# EAGLE library part STM32F429V (library ELL-i-DigitalIC)
STM32F427 / 429 in LQFP100 package. STM32F4-series Cortex-M4 microcontroller in a 100 lead package. Datasheet (DM00071990.pdf) <http://www.st.com/web/en/resource/technical/document/datasheet/DM00071990.pdf> .
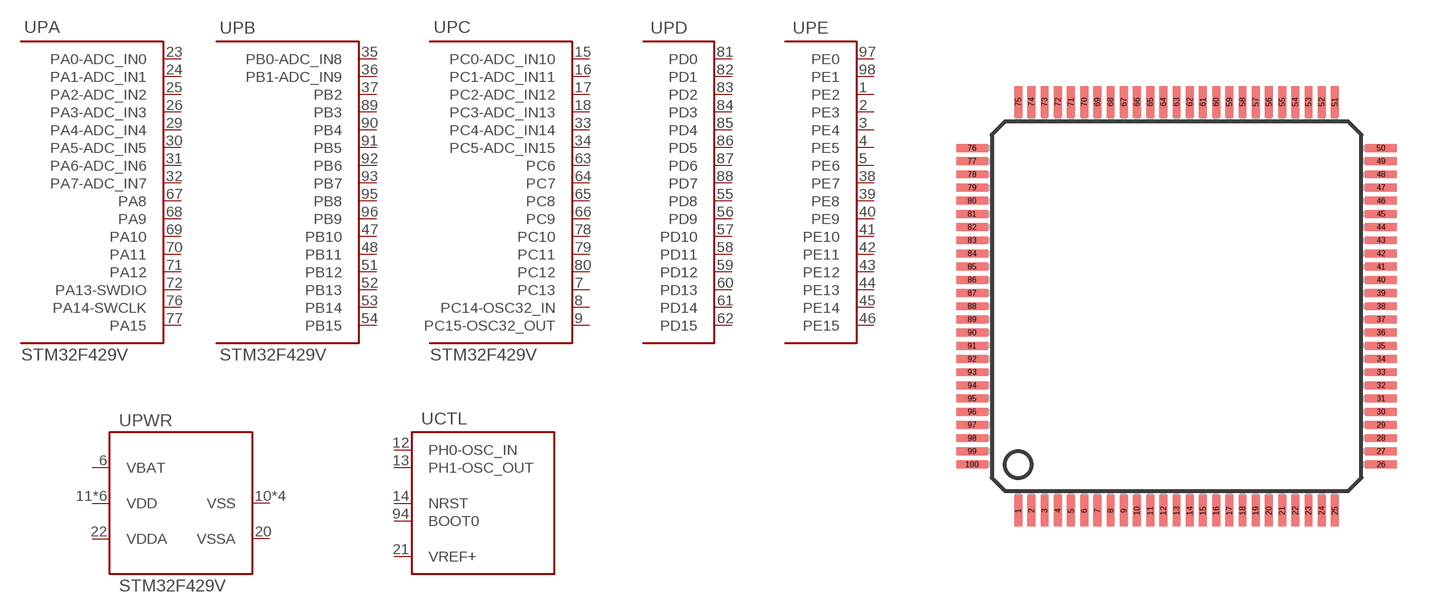
[diagram p2: symbol with the pads of LQFP100; footprint LQFP100]

Designator prefix U; gates PA=STM32-PA PB=STM32-PB PC=STM32-PC PD=STM32-PD PE=STM32-PE PWR=STM32FXXX-PWR CTL=STM32F4XX-CTL

## STM32F429VGT (FLASH: 1024K), STM32F429VIT (FLASH: 2048K)  [LQFP100]
1  PE:PE2
2  PE:PE3
3  PE:PE4
4  PE:PE5
5  PE:PE6
6  PWR:VBAT  pwr
7  PC:PC13
8  PC:PC14-OSC32_IN
9  PC:PC15-OSC32_OUT
10  PWR:VSS  pwr
11  PWR:VDD  pwr
12  CTL:PH0-OSC_IN
13  CTL:PH1-OSC_OUT
14  CTL:NRST
15  PC:PC0-ADC_IN10
16  PC:PC1-ADC_IN11
17  PC:PC2-ADC_IN12
18  PC:PC3-ADC_IN13
19  PWR:VDD  pwr
20  PWR:VSSA  pwr
21  CTL:VREF+
22  PWR:VDDA  pwr
23  PA:PA0-ADC_IN0
24  PA:PA1-ADC_IN1
25  PA:PA2-ADC_IN2
26  PA:PA3-ADC_IN3
27  PWR:VSS  pwr
28  PWR:VDD  pwr
29  PA:PA4-ADC_IN4
30  PA:PA5-ADC_IN5
31  PA:PA6-ADC_IN6
32  PA:PA7-ADC_IN7
33  PC:PC4-ADC_IN14
34  PC:PC5-ADC_IN15
35  PB:PB0-ADC_IN8
36  PB:PB1-ADC_IN9
37  PB:PB2
38  PE:PE7
39  PE:PE8
40  PE:PE9
41  PE:PE10
42  PE:PE11
43  PE:PE12
44  PE:PE13
45  PE:PE14
46  PE:PE15
47  PB:PB10
48  PB:PB11
50  PWR:VDD  pwr
51  PB:PB12
52  PB:PB13
53  PB:PB14
54  PB:PB15
55  PD:PD8
56  PD:PD9
57  PD:PD10
58  PD:PD11
59  PD:PD12
60  PD:PD13
61  PD:PD14
62  PD:PD15
63  PC:PC6
64  PC:PC7
65  PC:PC8
66  PC:PC9
67  PA:PA8
68  PA:PA9
69  PA:PA10
70  PA:PA11
71  PA:PA12
72  PA:PA13-SWDIO
74  PWR:VSS  pwr
75  PWR:VDD  pwr
76  PA:PA14-SWCLK
77  PA:PA15
78  PC:PC10
79  PC:PC11
80  PC:PC12
81  PD:PD0
82  PD:PD1
83  PD:PD2
84  PD:PD3
85  PD:PD4
86  PD:PD5
87  PD:PD6
88  PD:PD7
89  PB:PB3
90  PB:PB4
91  PB:PB5
92  PB:PB6
93  PB:PB7
94  CTL:BOOT0
95  PB:PB8
96  PB:PB9
97  PE:PE0
98  PE:PE1
99  PWR:VSS  pwr
100  PWR:VDD  pwr

## Footprint LQFP100 (pad centres in mm)
100 leads Low Profile Quad Flat Package (LQFP) 14x14 mm, 0.5 mm pitch. Wikipedia article on QFPs <https://en.wikipedia.org/wiki/LQFP>
smd 0.3 x 1.2: 1 -6,-7.75; 2 -5.5,-7.75; 3 -5,-7.75; 4 -4.5,-7.75; 5 -4,-7.75; 6 -3.5,-7.75; 7 -3,-7.75; 8 -2.5,-7.75; 9 -2,-7.75; 10 -1.5,-7.75; 11 -1,-7.75; 12 -0.5,-7.75; 13 0,-7.75; 14 0.5,-7.75; 15 1,-7.75; 16 1.5,-7.75; 17 2,-7.75; 18 2.5,-7.75; 19 3,-7.75; 20 3.5,-7.75; 21 4,-7.75; 22 4.5,-7.75; 23 5,-7.75; 24 5.5,-7.75; 25 6,-7.75; 51 6,7.75; 52 5.5,7.75; 53 5,7.75; 54 4.5,7.75; 55 4,7.75; 56 3.5,7.75; 57 3,7.75; 58 2.5,7.75; 59 2,7.75; 60 1.5,7.75; 61 1,7.75; 62 0.5,7.75; 63 0,7.75; 64 -0.5,7.75; 65 -1,7.75; 66 -1.5,7.75; 67 -2,7.75; 68 -2.5,7.75; 69 -3,7.75; 70 -3.5,7.75; 71 -4,7.75; 72 -4.5,7.75; 73 -5,7.75; 74 -5.5,7.75; 75 -6,7.75
smd 1.2 x 0.3: 26 7.75,-6; 27 7.75,-5.5; 28 7.75,-5; 29 7.75,-4.5; 30 7.75,-4; 31 7.75,-3.5; 32 7.75,-3; 33 7.75,-2.5; 34 7.75,-2; 35 7.75,-1.5; 36 7.75,-1; 37 7.75,-0.5; 38 7.75,0; 39 7.75,0.5; 40 7.75,1; 41 7.75,1.5; 42 7.75,2; 43 7.75,2.5; 44 7.75,3; 45 7.75,3.5; 46 7.75,4; 47 7.75,4.5; 48 7.75,5; 49 7.75,5.5; 50 7.75,6; 76 -7.75,6; 77 -7.75,5.5; 78 -7.75,5; 79 -7.75,4.5; 80 -7.75,4; 81 -7.75,3.5; 82 -7.75,3; 83 -7.75,2.5; 84 -7.75,2; 85 -7.75,1.5; 86 -7.75,1; 87 -7.75,0.5; 88 -7.75,0; 89 -7.75,-0.5; 90 -7.75,-1; 91 -7.75,-1.5; 92 -7.75,-2; 93 -7.75,-2.5; 94 -7.75,-3; 95 -7.75,-3.5; 96 -7.75,-4; 97 -7.75,-4.5; 98 -7.75,-5; 99 -7.75,-5.5; 100 -7.75,-6